# EAGLE library part LMV324 (library IC)
LMV324, Quad, Low Voltage, Op Amp
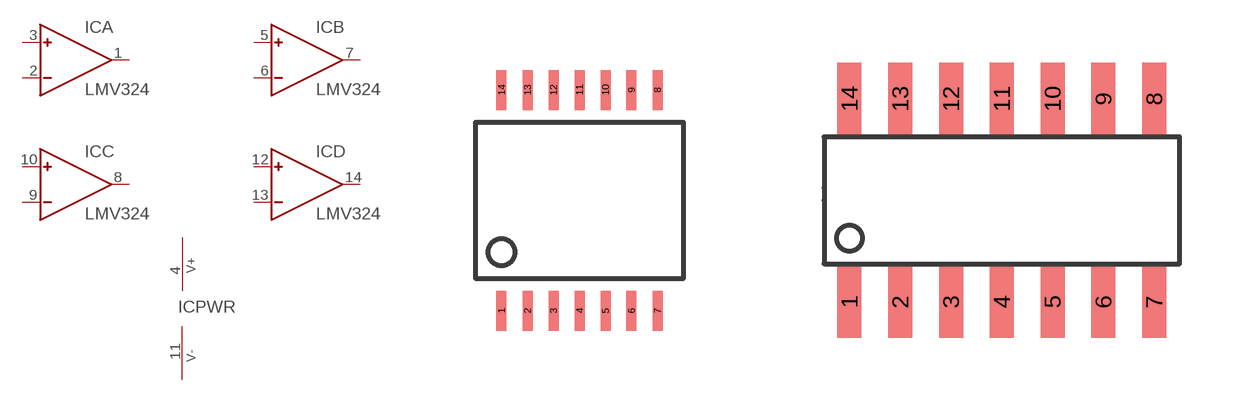
[diagram p153: symbol with the pads of TSSOP14; footprints TSSOP14, SOIC14]

Designator prefix IC; gates A=OPAMP B=OPAMP C=OPAMP D=OPAMP PWR=PWR_V+_V-

## LMV324MT  [TSSOP14]
1  A:OUT  out
2  A:IN-  in
3  A:IN+  in
4  PWR:V+  pwr
5  B:IN+  in
6  B:IN-  in
7  B:OUT  out
8  C:OUT  out
9  C:IN-  in
10  C:IN+  in
11  PWR:V-  pwr
12  D:IN+  in
13  D:IN-  in
14  D:OUT  out

## LMV324M  [SOIC14]
Pads as for TSSOP14

## Footprint TSSOP14 (pad centres in mm)
smd 0.25 x 1: 1 -1.95,-2.763; 2 -1.3,-2.763; 3 -0.65,-2.763; 4 0,-2.763; 5 0.65,-2.763; 6 1.3,-2.763; 7 1.95,-2.763; 8 1.95,2.763; 9 1.3,2.763; 10 0.65,2.763; 11 0,2.763; 12 -0.65,2.763; 13 -1.3,2.763; 14 -1.95,2.763

## Footprint SOIC14 (pad centres in mm)
SOIC-14, 1.27mm pitch, 6.2mm width, 8.75mm length
smd 0.6 x 1.8: 1 -3.81,-2.54; 2 -2.54,-2.54; 3 -1.27,-2.54; 4 0,-2.54; 5 1.27,-2.54; 6 2.54,-2.54; 7 3.81,-2.54; 8 3.81,2.54; 9 2.54,2.54; 10 1.27,2.54; 11 0,2.54; 12 -1.27,2.54; 13 -2.54,2.54; 14 -3.81,2.54